# EAGLE library part POT-DUAL (library uClouds_SE_Library)
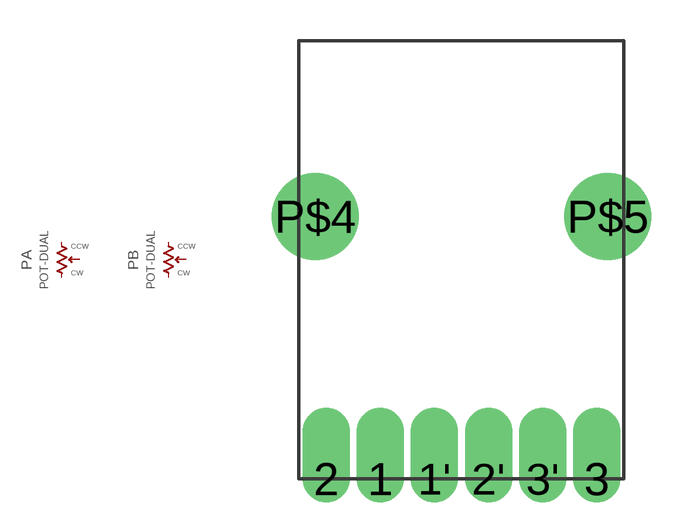
[diagram p7: symbol with the pads of POT-RK1109G; footprint POT-RK1109G]

Designator prefix P; gates A=POT B=POT

## POT-DUAL  [POT-RK1109G]
1  A:1  pas
1'  B:1  pas
2  A:2  pas
2'  B:2  pas
3  A:3  pas
3'  B:3  pas

## Footprint POT-RK1109G (pad centres in mm)
drill 1 pad 1.75 offset: 1 -3,-9.7; 1' -1,-9.7; 2 -5,-9.7; 2' 1,-9.7; 3 5,-9.7; 3' 3,-9.7
drill 2.2 pad 3.2: P$4 -5.4,0; P$5 5.4,0